# Altium footprint library CONSMA020.062-G.PcbLib: 1 footprints
Each footprint in its own frame and in the unit in brackets; x right, y up, seen from the top. Pads: shape width x height; smd on the part's side, far side on the other; paste and mask are expansions set on the pad; w line width, h text height; cw(c..) or ccw(c..) is an arc to the next point about the centre after c.
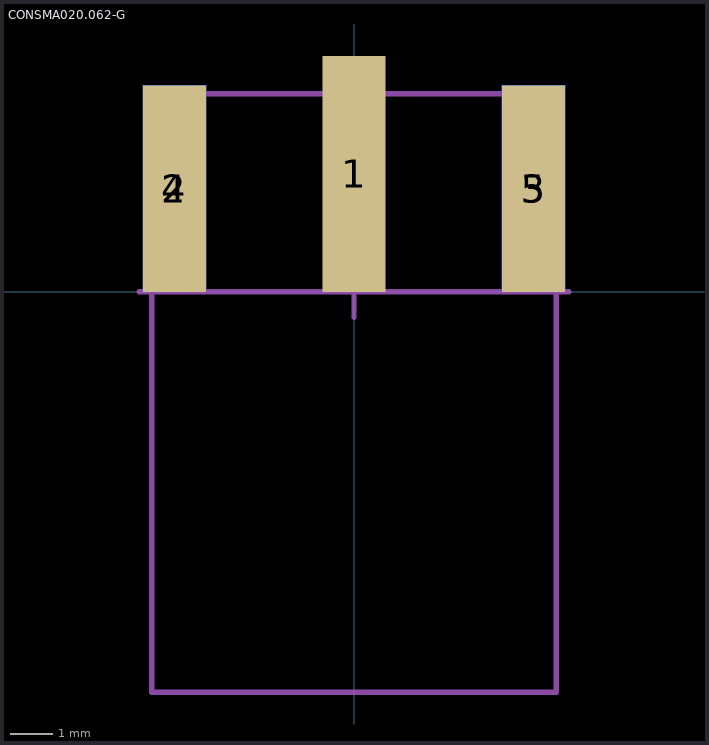
[diagram p0: the footprint, top view; thin cyan lines are the x and y axes]

## CONSMA020.062-G [mm]
height 7.92
pads (5):
  rect 1.5x5.6 smd mask+0: 1(0,2.8)
  rect 1.5x4.9 smd mask+0: 2(-4.26,2.45) 3(4.26,2.45)
  rect 1.5x4.9 smd far side mask+0: 4(-4.26,2.45) 5(4.26,2.45)
Mechanical 13:
  lines w0.127: -4.8,-9.5 4.8,-9.5 4.8,4.7 -4.8,4.7 -4.8,-9.5
Mechanical 15:
  lines w0.127: -5.1,0 5.1,0 ; -0.6,0 0,0 ; 0,-0.6 0,0 ; 0,0.6 0,0 ; 0.6,0 0,0
3D body "CONSMA020.062.STEP": height 4.35, standoff -3.57, extent -4.76,-9.5 4.76,4.7